# Altium schematic symbol library 4.3_RGB_LCD.SCHLIB: 15 symbols
Pins are listed as number, name and electrical type; pins without a type are passive.

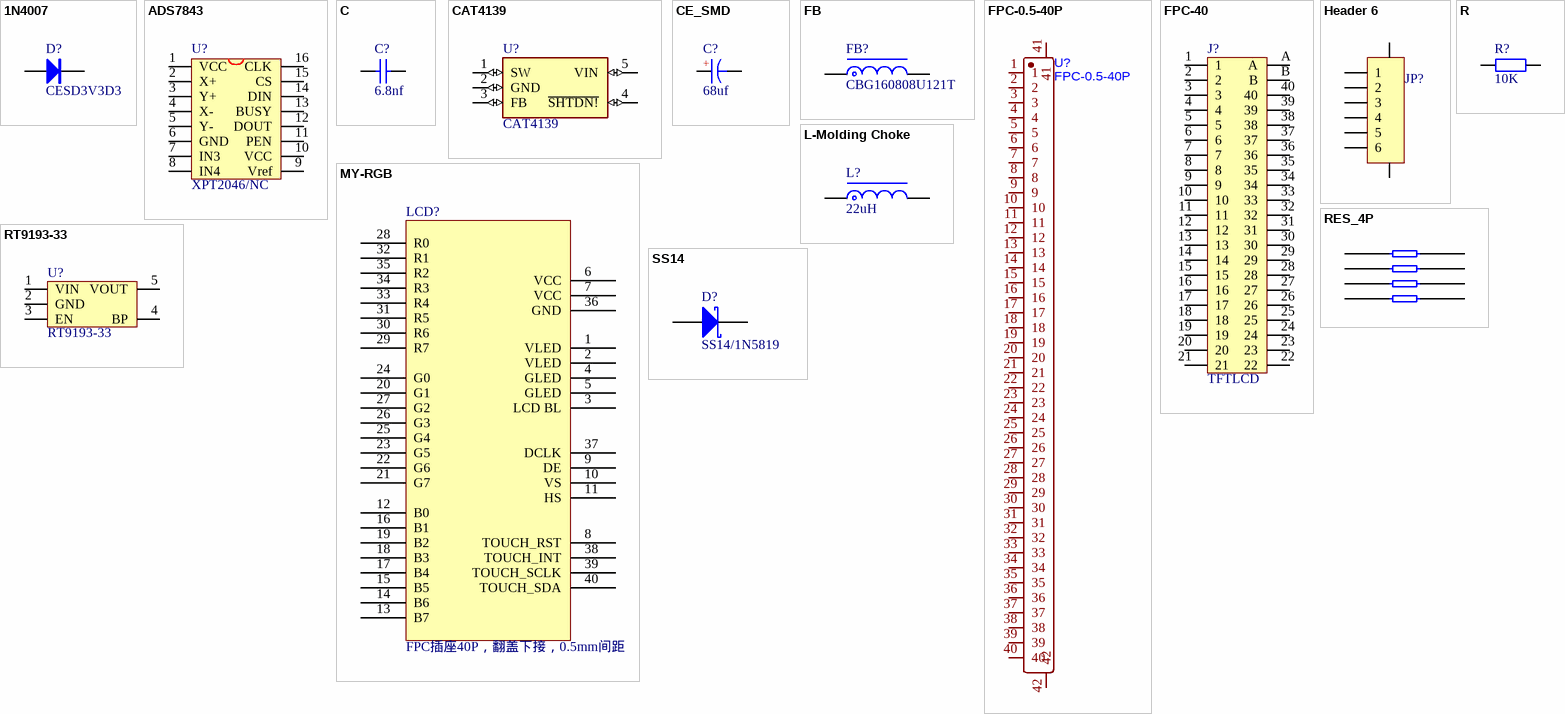
[diagram p0: symbols 1N4007 to SS14]

## 1N4007
designator D?, comment CESD3V3D3
整流二极管
footprint SMA (4.5x2.6*2.2mm（长宽高，不包括引脚）)
pins: 1 A, 2 K

## ADS7843
designator U?, comment XPT2046/NC
footprint SSOP16
pins: 1 VCC, 2 X+, 3 Y+, 4 X-, 5 Y-, 6 GND, 7 IN3, 8 IN4, 9 Vref, 10 VCC, 11 PEN, 12 DOUT, 13 BUSY, 14 DIN, 15 CS, 16 CLK

## C
designator C?, comment 6.8nf
贴片电容/MLCC电容
footprint C0603_L (贴片MLCC电容)
pins: 1, 2

## CAT4139
designator U?
LED Driver IC 1 Output DC DC Regulator Step-Up (Boost) Analog, PWM Dimming 750mA (Switch) TSOT-23-5
footprint SOT-23(OT)5_LEAD
pins: 1 SW (io), 2 GND (io), 3 FB (io), 4 ~{SHTDN!} (io), 5 VIN (io)

## CE_SMD
designator C?, comment 68uf
贴片电解电容
footprint CE A(3*5.4) (贴片电解电容，直径3mm，高5.4mm)
pins: 1, 2
text: +

## FB
designator FB?, comment CBG160808U121T
贴片磁珠
footprint FB0805 (0805贴片磁珠)
pins: 1, 2

## FPC-0.5-40P
designator U?
footprint CONN-SMD_FPC-0.5-40P
pins: 1, 2, 3, 4, 5, 6, 7, 8, 9, 10, 11, 12, 13, 14, 15, 16, 17, 18, 19, 20, 21, 22, 23, 24, 25, 26, 27, 28, 29, 30, 31, 32, 33, 34, 35, 36, 37, 38, 39, 40, 41, 42

## FPC-40
designator J?, comment TFTLCD
FPC-40P-0.5mm
footprint FPC-TOP40 (FPCTOP;0.5mm;)
pins: 1, 2, 3, 4, 5, 6, 7, 8, 9, 10, 11, 12, 13, 14, 15, 16, 17, 18, 19, 20, 21, 22, 23, 24, 25, 26, 27, 28, 29, 30, 31, 32, 33, 34, 35, 36, 37, 38, 39, 40, A, B

## Header 6
designator JP?, comment CON-6P  (value not drawn)
6P连接器
footprint FPC0.5-WT-6P (长：7.2mm，宽：5.2mm，高：2mm)
pins: 0, 0, 1, 2, 3, 4, 5, 6

## L-Molding Choke
designator L?, comment 22uH
一体成型电感
footprint L-SMD-0420
pins: 1, 2

## MY-RGB
designator LCD?, comment FPC插座40P，翻盖下接，0.5mm间距
footprint FPC40P-0.5MM
pins: 1 VLED, 2 VLED, 3 LCD BL, 4 GLED, 5 GLED, 6 VCC, 7 VCC, 8 TOUCH_RST, 9 DE, 10 VS, 11 HS, 12 B0, 13 B7, 14 B6, 15 B5, 16 B1, 17 B4, 18 B3, 19 B2, 20 G1, 21 G7, 22 G6, 23 G5, 24 G0, 25 G4, 26 G3, 27 G2, 28 R0, 29 R7, 30 R6, 31 R5, 32 R1, 33 R4, 34 R3, 35 R2, 36 GND, 37 DCLK, 38 TOUCH_INT, 39 TOUCH_SCLK, 40 TOUCH_SDA

## R
designator R?, comment 10K
贴片电阻
footprint R0603_L (1/10W贴片电阻)
pins: 1, 2

## RES_4P
designator RP?, comment 120R排阻  (value not drawn)
footprint 0603_4P
pins: 1, 2, 3, 4, 5, 6, 7, 8

## RT9193-33
designator U?
3.3V超低压差LDO
footprint SOT-23-5
pins: 1 VIN, 2 GND, 3 EN, 4 BP, 5 VOUT

## SS14
designator D?, comment SS14/1N5819
肖特基二极管
footprint SMA (4.5x2.6*2.2mm（长宽高，不包括引脚）)
pins: 1 A, 2 K